# Altium schematic symbol library LedMatrixDisplay.SCHLIB: 17 symbols
Pins are listed as number, name and electrical type; pins without a type are passive.

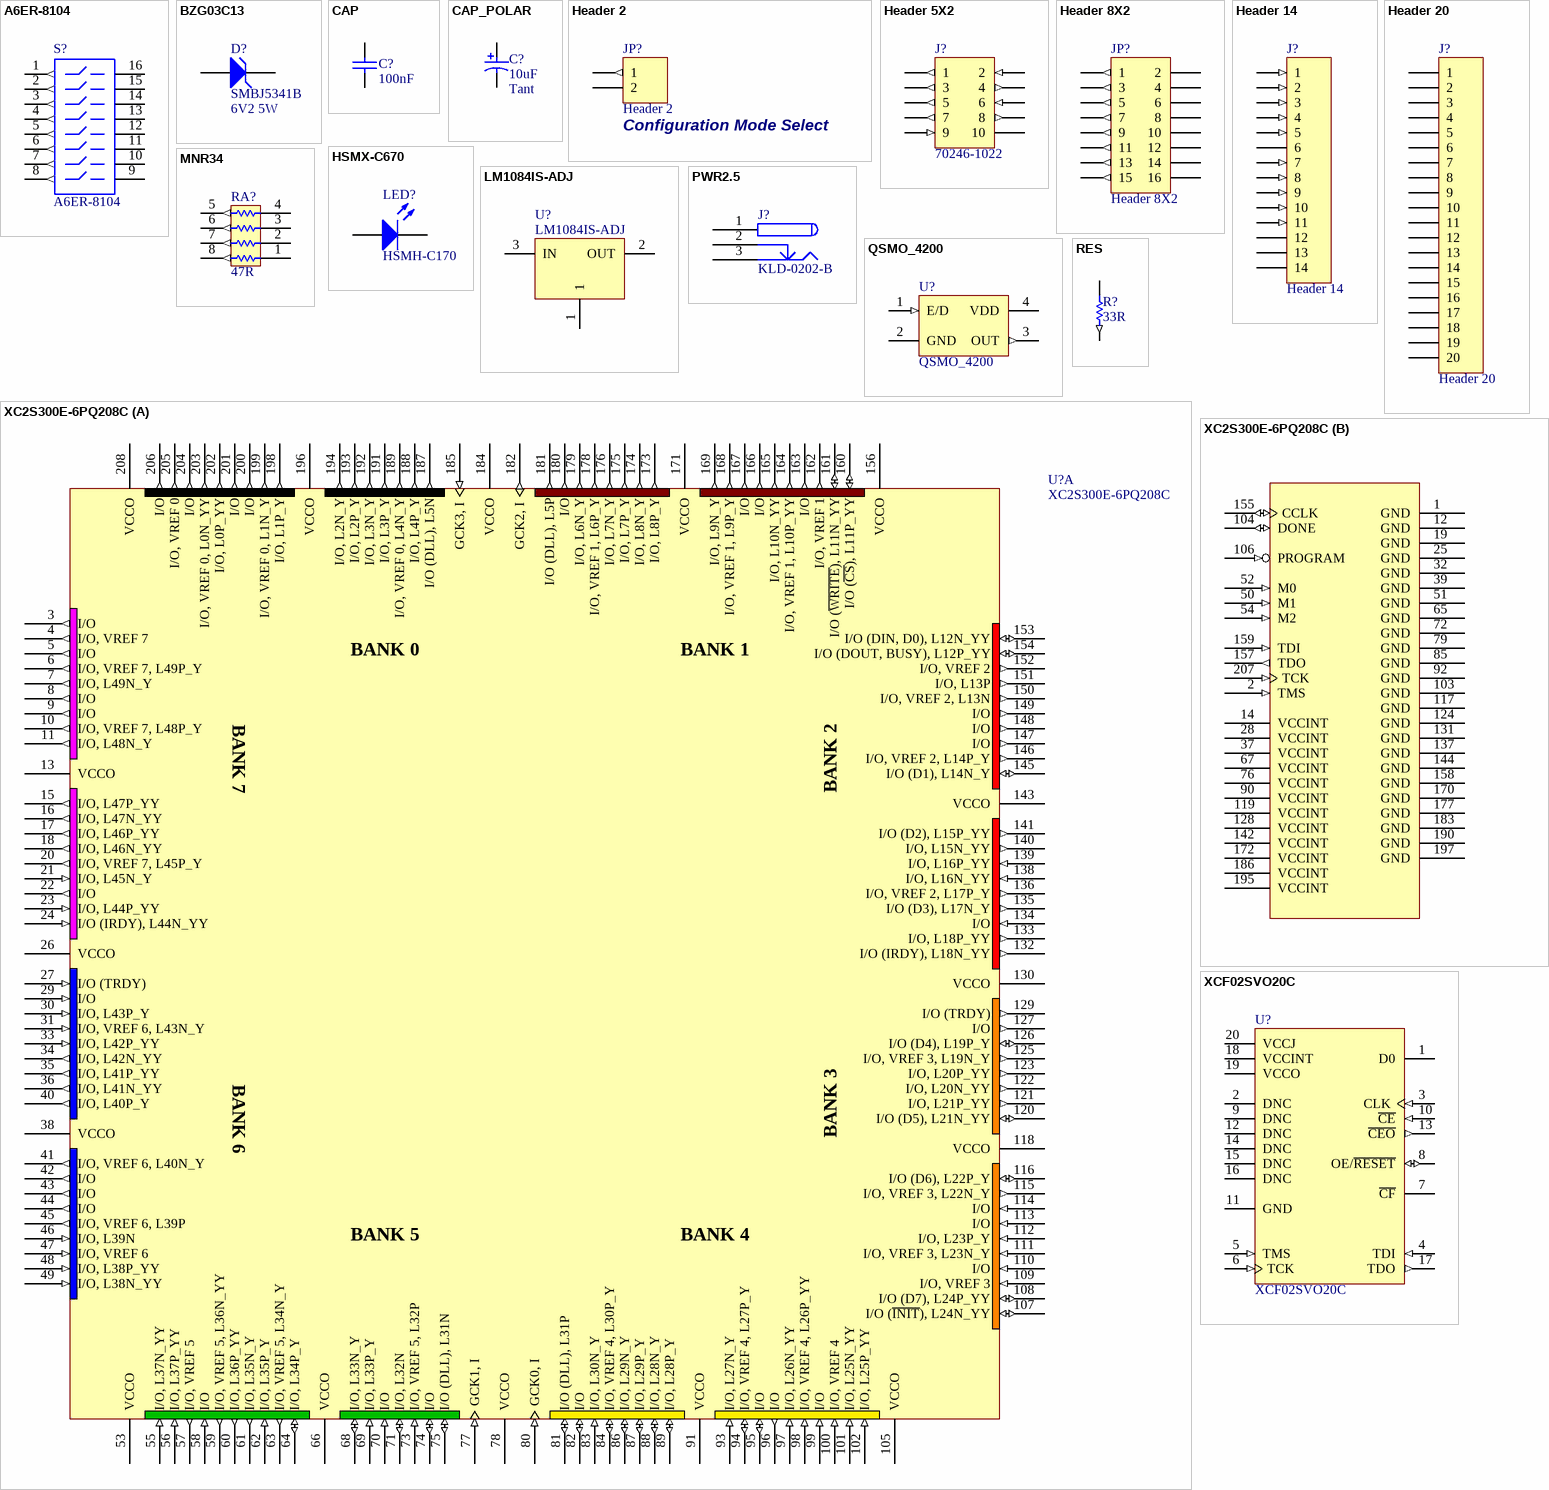
[diagram p0: symbols A6ER-8104 to XCF02SVO20C]

## A6ER-8104
designator S?
DIP Switch Side actuator long liver Piano Key; Manufacturer: Generic Components; Fitted: True; Published: 24-Mar-1999; Revision: July-2002: Re-released for DXP Platform.; Publisher: Altium Limited
footprint DIP-16-KEY
simulation model dpsw8 (Spice Subcircuit)
pins: 1 (out), 2 (out), 3 (out), 4 (out), 5 (out), 6 (out), 7 (out), 8 (out), 9, 10, 11, 12, 13, 14, 15, 16

## BZG03C13
designator D?, comment SMBJ5341B  Part Description: 6V2 5W
Zener Diode, 6.2V, 5W; Manufacturer: Microsemi; Fitted: True; Revision: 31-Oct-2003
footprint DO214
pins: 1 A, 2 K

## CAP
designator C?, comment 100nF
Capacitor; Fitted: False
footprint CC1005-0402 (0402 Capacitor)
footprint CC1608-0603 (0603 Capacitor)
footprint CC2012-0805
footprint CC3216-1206 (1206 Capacitor)
footprint CC3225-1210 (1210 Capacitor)
pins: 1, 2

## CAP_POLAR
designator C?, comment 10uF  Capacitor Type: Tant
Polar Capacitor; Fitted: True
footprint MCCT-A (3216 Polar Capacitor)
footprint MCCT-B
footprint MCCT-C (6032 Polar Capacitor)
footprint MCCT-D (7343 Polar Capacitor)
pins: 1, 2

## Header 2
designator JP?  Usage: Configuration Mode Select
Header, 2-Pin; Manufacturer: Generic Components; Class I: Connector; Fitted: True; Revision: July-2002: Re-released for DXP Platform.; Publisher: Altium Limited
footprint HDR1X2
signal-integrity model Connector
pins: 1 (out), 2

## Header 5X2
designator J?, comment 70246-1022
Header, 5-Pin, Dual row; Manufacturer: Molex; Class I: Connector; Fitted: True; Revision: July-2002: Re-released for DXP Platform.; Publisher: Altium Limited
signal-integrity model Connector
footprint HDR2X5_LP
pins: 1 (out), 2 (in), 3 (out), 4 (out), 5 (out), 6 (in), 7 (out), 8 (out), 9 (in), 10 (power)

## Header 8X2
designator JP?
Header, 8-Pin, Dual row; Manufacturer: Generic Components; Class I: Connector; Revision: July-2002: Re-released for DXP Platform.; Publisher: Altium Limited
footprint HDR2X8
signal-integrity model Connector
pins: 1 (out), 2, 3 (out), 4, 5 (out), 6, 7 (out), 8, 9 (out), 10, 11 (out), 12, 13 (out), 14, 15 (out), 16

## Header 14
designator J?
Header, 14-Pin; Manufacturer: Generic Components; Class I: Connector; Revision: July-2002: Re-released for DXP Platform.; Publisher: Altium Limited
footprint HDR1X14
signal-integrity model Connector
pins: 1 (in), 2 (in), 3 (in), 4 (in), 5 (in), 6, 7 (in), 8 (in), 9 (in), 10 (in), 11 (in), 12, 13, 14

## Header 20
designator J?
Header, 20-Pin; Manufacturer: Generic Components; Class I: Connector; Revision: July-2002: Re-released for DXP Platform.; Publisher: Altium Limited
footprint HDR2X10
signal-integrity model Connector
pins: 1, 2, 3, 4, 5, 6, 7, 8, 9, 10, 11, 12, 13, 14, 15, 16, 17, 18, 19, 20

## HSMX-C670
designator LED?, comment HSMH-C170
Typical RED GaAs SMD LED Agilent make; Manufacturer: Generic Components; Class I: Optoelectronic; Fitted: True; Published: 8-Jun-2000; Revision: July-2002: Re-released for DXP Platform.; Publisher: Altium Limited; Class II: LED
footprint SMD _LED
simulation model LED1 (Diode)
pins: 1 A, 2 K

## LM1084IS-ADJ
designator U?
5A Low Dropout Possitive Regulators; Fitted: True
footprint TO-263
pins: 1 "Output", 2 OUT (power) "Output", 3 IN (power) "Input"

## MNR34
designator RA?, comment 47R
3216x4 Resistor Array; Fitted: True
footprint MNR34 (Footprint not found)
pins: 1, 2, 3, 4, 5 (out), 6 (out), 7 (out), 8 (out)

## PWR2.5
designator J?, comment KLD-0202-B
Low Voltage Power Supply Sonnector; Manufacturer: Kycon; Fitted: True
footprint KLD-0202
pins: 1 (power), 2 (power), 3 (power)

## QSMO_4200
designator U?
Surface Mount Crystal Oscillator; Fitted: False
footprint QSMO_4200
pins: 1 E/D (in) "Low Disables Clock", 2 GND (power), 3 OUT (out) "Output", 4 VDD (power)

## RES
designator R?, comment 33R
Resistor; Fitted: False
footprint CC1005-0402 (0402 Resistor)
footprint CC1310-0504 (0504 Resistor)
footprint CC1608-0603 (0603 Resistor)
footprint CC2012-0805
footprint CC3216-1206 (1206 Resistor)
footprint CC3225-1210 (1210 Resistor)
footprint CC4513-1805 (1805 Resistor)
footprint CC2512 (2512 Resistor)
pins: 1, 2 (out)

## XC2S300E-6PQ208C
designator U?
Spartan-IIE 1.8V FPGA, 208-Pin PQFP, Standard Performance, Commercial Grade; Package Information: Latest Revision: ver1.1, Oct-2002; Code - JEDEC: MS-029-FA-1; Published: 19-Jul-2002; Revision: 17-Sep-2003: Pin names updated to match datasheet, ver2.1.; Datasheet: Latest Revision: 09-Jul-2003; Package Reference: PQ208; Publisher: Altium Limited
footprint PQ208 (208-Pin Plastic Quad Flat Pack (PQ208))
3D model XC2S300E-PQ208 (208-Pin Plastic Quad Flat Pack (PQ208))
part A pins: 3 I/O (out), 4 I/O, VREF 7 (out), 5 I/O (out), 6 I/O, VREF 7, L49P_Y (out), 7 I/O, L49N_Y (out), 8 I/O (out), 9 I/O (out), 10 I/O, VREF 7, L48P_Y (out), 11 I/O, L48N_Y (out), 13 VCCO (power), 15 I/O, L47P_YY (out), 16 I/O, L47N_YY (out), 17 I/O, L46P_YY (out), 18 I/O, L46N_YY (out), 20 I/O, VREF 7, L45P_Y (out), 21 I/O, L45N_Y (in), 22 I/O (out), 23 I/O, L44P_YY (in), 24 I/O (IRDY), L44N_YY (in), 26 VCCO (power), 27 I/O (TRDY) (in), 29 I/O (in), 30 I/O, L43P_Y (in), 31 I/O, VREF 6, L43N_Y (in), 33 I/O, L42P_YY (in), 34 I/O, L42N_YY (out), 35 I/O, L41P_YY (out), 36 I/O, L41N_YY (out), 38 VCCO (power), 40 I/O, L40P_Y (out), 41 I/O, VREF 6, L40N_Y (out), 42 I/O (out), 43 I/O (out), 44 I/O (out), 45 I/O, VREF 6, L39P (out), 46 I/O, L39N (in), 47 I/O, VREF 6 (in), 48 I/O, L38P_YY (in), 49 I/O, L38N_YY (in), 53 VCCO (power), 55 I/O, L37N_YY (in), 56 I/O, L37P_YY (in), 57 I/O, VREF 5 (out), 58 I/O (in), 59 I/O, VREF 5, L36N_YY (out), 60 I/O, L36P_YY (out), 61 I/O, L35N_Y (out), 62 I/O, L35P_Y (in), 63 I/O, VREF 5, L34N_Y (out), 64 I/O, L34P_Y (io), 66 VCCO (power), 68 I/O, L33N_Y (io), 69 I/O, L33P_Y (in), 70 I/O (in), 71 I/O, L32N (io), 73 I/O, VREF 5, L32P (in), 74 I/O (io), 75 I/O (DLL), L31N (io), 77 GCK1, I (in), 78 VCCO (power), 80 GCK0, I (in), 81 I/O (DLL), L31P (io), 82 I/O (io), 83 I/O, L30N_Y (in), 84 I/O, VREF 4, L30P_Y (io), 86 I/O, L29N_Y (io), 87 I/O, L29P_Y (io), 88 I/O, L28N_Y (io), 89 I/O, L28P_Y (io), 91 VCCO (power), 93 I/O, L27N_Y (in), 94 I/O, VREF 4, L27P_Y (io), 95 I/O (io), 96 I/O (out), 97 I/O, L26N_YY (in), 98 I/O, VREF 4, L26P_YY (in), 99 I/O (in), 100 I/O, VREF 4 (in), 101 I/O, L25N_YY (in), 102 I/O, L25P_YY (in), 105 VCCO (power), 107 I/O (~{INIT}), L24N_YY (io), 108 I/O (D7), L24P_YY (io), 109 I/O, VREF 3 (in), 110 I/O (in), 111 I/O, VREF 3, L23N_Y (in), 112 I/O, L23P_Y (in), 113 I/O (in), 114 I/O (in), 115 I/O, VREF 3, L22N_Y (out), 116 I/O (D6), L22P_Y (io), 118 VCCO (power), 120 I/O (D5), L21N_YY (io), 121 I/O, L21P_YY (out), 122 I/O, L20N_YY (out), 123 I/O, L20P_YY (out), 125 I/O, VREF 3, L19N_Y (out), 126 I/O (D4), L19P_Y (io), 127 I/O (out), 129 I/O (TRDY) (out), 130 VCCO (power), 132 I/O (IRDY), L18N_YY (out), 133 I/O, L18P_YY (out), 134 I/O (in), 135 I/O (D3), L17N_Y (out), 136 I/O, VREF 2, L17P_Y (out), 138 I/O, L16N_YY (in), 139 I/O, L16P_YY (in), 140 I/O, L15N_YY (out), 141 I/O (D2), L15P_YY (out), 143 VCCO (power), 145 I/O (D1), L14N_Y (io), 146 I/O, VREF 2, L14P_Y (out), 147 I/O (out), 148 I/O (out), 149 I/O (out), 150 I/O, VREF 2, L13N (out), 151 I/O, L13P (out), 152 I/O, VREF 2 (out), 153 I/O (DIN, D0), L12N_YY (io), 154 I/O (DOUT, BUSY), L12P_YY (io), 156 VCCO (power), 160 I/O (~{CS}), L11P_YY (io), 161 I/O (~{WRITE}), L11N_YY (io), 162 I/O, VREF 1 (out), 163 I/O (out), 164 I/O, VREF 1, L10P_YY (out), 165 I/O, L10N_YY (out), 166 I/O (out), 167 I/O (out), 168 I/O, VREF 1, L9P_Y (out), 169 I/O, L9N_Y (out), 171 VCCO (power), 173 I/O, L8P_Y (out), 174 I/O, L8N_Y (out), 175 I/O, L7P_Y (out), 176 I/O, L7N_Y (out), 178 I/O, VREF 1, L6P_Y (out), 179 I/O, L6N_Y (out), 180 I/O (out), 181 I/O (DLL), L5P (out), 182 GCK2, I (out), 184 VCCO (power), 185 GCK3, I (in), 187 I/O (DLL), L5N (out), 188 I/O, L4P_Y (out), 189 I/O, VREF 0, L4N_Y (out), 191 I/O, L3P_Y (out), 192 I/O, L3N_Y (out), 193 I/O, L2P_Y (out), 194 I/O, L2N_Y (out), 196 VCCO (power), 198 I/O, L1P_Y (out), 199 I/O, VREF 0, L1N_Y (out), 200 I/O (out), 201 I/O (out), 202 I/O, L0P_YY (out), 203 I/O, VREF 0, L0N_YY (out), 204 I/O (out), 205 I/O, VREF 0 (out), 206 I/O (out), 208 VCCO (power)
part B pins: 1 GND (power), 2 TMS (in), 12 GND (power), 14 VCCINT (power), 19 GND (power), 25 GND (power), 28 VCCINT (power), 32 GND (power), 37 VCCINT (power), 39 GND (power), 50 M1 (in), 51 GND (power), 52 M0 (in), 54 M2 (in), 65 GND (power), 67 VCCINT (power), 72 GND (power), 76 VCCINT (power), 79 GND (power), 85 GND (power), 90 VCCINT (power), 92 GND (power), 103 GND (power), 104 DONE (io), 106 PROGRAM (in), 117 GND (power), 119 VCCINT (power), 124 GND (power), 128 VCCINT (power), 131 GND (power), 137 GND (power), 142 VCCINT (power), 144 GND (power), 155 CCLK (io), 157 TDO (out), 158 GND (power), 159 TDI (in), 170 GND (power), 172 VCCINT (power), 177 GND (power), 183 GND (power), 186 VCCINT (power), 190 GND (power), 195 VCCINT (power), 197 GND (power), 207 TCK (in)
part A text: BANK 0; BANK 1; BANK 7; BANK 2; BANK 6; BANK 3; BANK 5; BANK 4

## XCF02SVO20C
designator U?
XCF00S Series, Platform Flash In-System Programmable Configuration 3.3V PROM, 20-Pin TSOP, 2-Megabit, Commercial Grade; Manufacturer: Xilinx; Package Information: Latest Revision: ver1.0, May-2003; Code - JEDEC: MO-153-AC; Published: 17-Sep-2003; Datasheet: Latest Revision: ver1.1, Jun-2003; Package Reference: VO20; Publisher: Altium Limited
footprint VO20 (20-Lead TSOP (VO20))
pins: 1 D0 (hiz) "Serial Data Output, for configuring an FPGA in serial mode.", 2 DNC "Leave Unconnected.", 3 CLK (in) "Configuration Clock Input.", 4 TDI (in) "JTAG Serial Data Input.", 5 TMS (in) "JTAG Mode Select Input.", 6 TCK (in) "JTAG Test Clock Input.", 7 ~{CF} (oc) "Configuration Pulse (Open-Drain Output).", 8 OE/~{RESET} (io) "Output Enable/Reset (Open-Drain I/O).", 9 DNC "Leave Unconnected.", 10 ~{CE} (in) "Chip Enable Input.", 11 GND (power) "Ground", 12 DNC "Leave Unconnected.", 13 ~{CEO} (out) "Chip Enable Output, connects to the CE input of the next PROM in the chain.", 14 DNC "Leave Unconnected.", 15 DNC "Leave Unconnected.", 16 DNC "Leave Unconnected.", 17 TDO (out) "JTAG Serial Data Output.", 18 VCCINT (power) "+3.3V Supply for internal logic.", 19 VCCO (power) "+3.3V, 2.5V, or 1.8V I/O Supply.", 20 VCCJ (power) "+3.3V or 2.5V JTAG Signals I/O Supply."